# Altium schematic symbol library CONN 43650-0200 MOLEX 2PIN.SchLib: 1 symbol
Pins are listed as number, name and electrical type; pins without a type are passive.

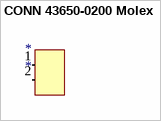
[diagram p0: symbol CONN 43650-0200 Molex]

## CONN 43650-0200 Molex
designator *
2 Pin Molex Connector
pins: 1 (in), 2 (in)